# EAGLE library part XCR3128XL_TQ144 (library xess)
Xilinx CoolRunner 128-macrocell CPLD
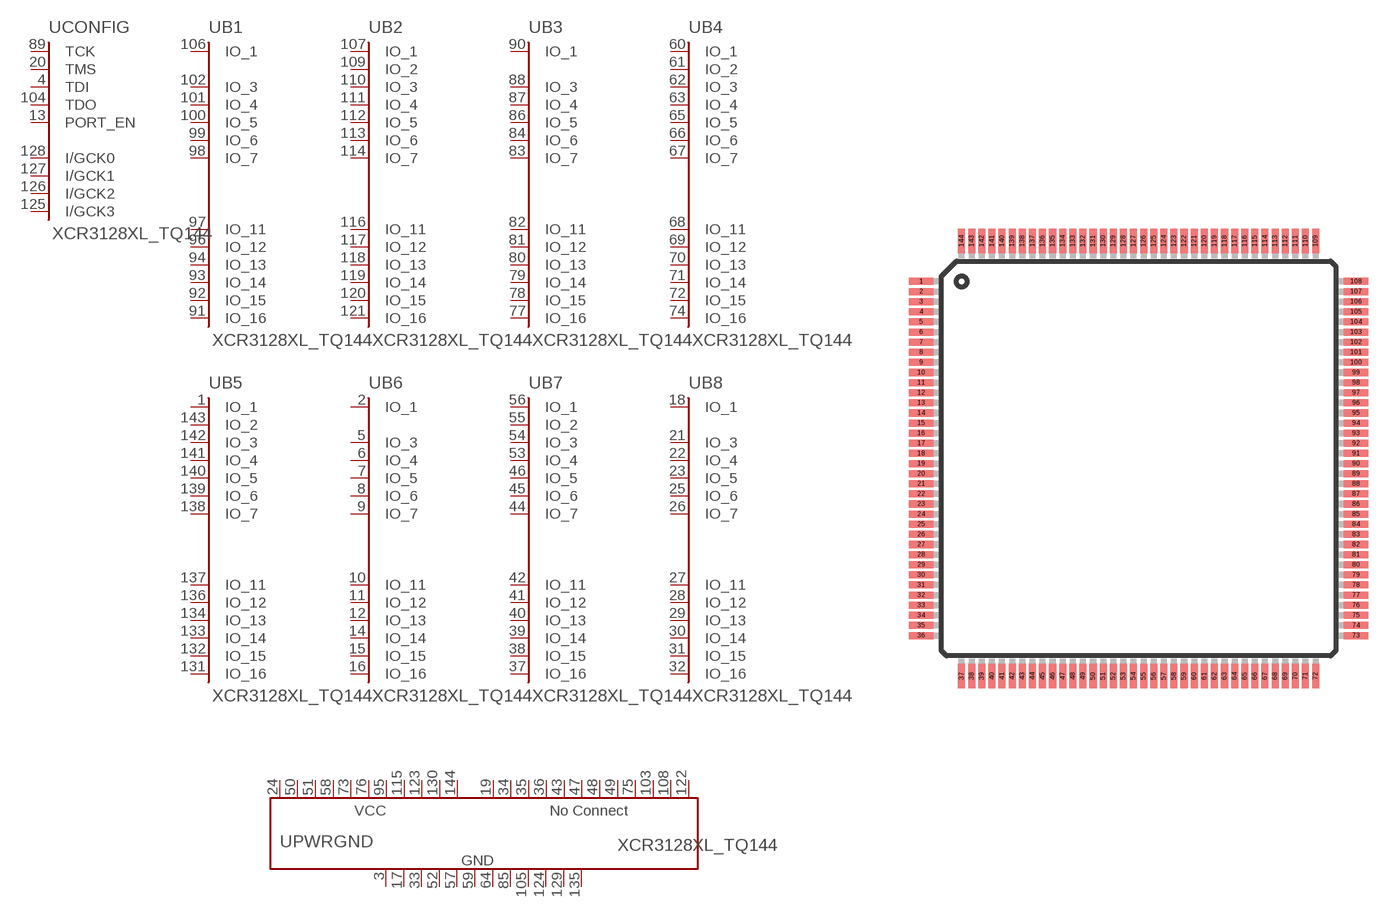
[diagram p15: symbol with the pads of TQ144; footprint TQ144]

Designator prefix U; gates CONFIG=XCR_CONFIG PWRGND=XCR_PWRGND B1=XCR_MACROCELL12 B2=XCR_MACROCELL13 B3=XCR_MACROCELL12 B4=XCR_MACROCELL13 B5=XCR_MACROCELL13 B6=XCR_MACROCELL12 B7=XCR_MACROCELL13 B8=XCR_MACROCELL12

## XCR3128XL_TQ144  [TQ144]
1  B5:IO_1
2  B6:IO_1
3  PWRGND:GND  pwr
4  CONFIG:TDI  in
5  B6:IO_3
6  B6:IO_4
7  B6:IO_5
8  B6:IO_6
9  B6:IO_7
10  B6:IO_11
11  B6:IO_12
12  B6:IO_13
13  CONFIG:PORT_EN  in
14  B6:IO_14
15  B6:IO_15
16  B6:IO_16
17  PWRGND:GND  pwr
18  B8:IO_1
19  PWRGND:NC  nc
20  CONFIG:TMS  in
21  B8:IO_3
22  B8:IO_4
23  B8:IO_5
24  PWRGND:VCC  pwr
25  B8:IO_6
26  B8:IO_7
27  B8:IO_11
28  B8:IO_12
29  B8:IO_13
30  B8:IO_14
31  B8:IO_15
32  B8:IO_16
33  PWRGND:GND  pwr
34  PWRGND:NC  nc
35  PWRGND:NC  nc
36  PWRGND:NC  nc
37  B7:IO_16
38  B7:IO_15
39  B7:IO_14
40  B7:IO_13
41  B7:IO_12
42  B7:IO_11
43  PWRGND:NC  nc
44  B7:IO_7
45  B7:IO_6
46  B7:IO_5
47  PWRGND:NC  nc
48  PWRGND:NC  nc
49  PWRGND:NC  nc
50  PWRGND:VCC  pwr
51  PWRGND:VCC  pwr
52  PWRGND:GND  pwr
53  B7:IO_4
54  B7:IO_3
55  B7:IO_2
56  B7:IO_1
57  PWRGND:GND  pwr
58  PWRGND:VCC  pwr
59  PWRGND:GND  pwr
60  B4:IO_1
61  B4:IO_2
62  B4:IO_3
63  B4:IO_4
64  PWRGND:GND  pwr
65  B4:IO_5
66  B4:IO_6
67  B4:IO_7
68  B4:IO_11
69  B4:IO_12
70  B4:IO_13
71  B4:IO_14
72  B4:IO_15
73  PWRGND:VCC  pwr
74  B4:IO_16
75  PWRGND:NC  nc
76  PWRGND:VCC  pwr
77  B3:IO_16
78  B3:IO_15
79  B3:IO_14
80  B3:IO_13
81  B3:IO_12
82  B3:IO_11
83  B3:IO_7
84  B3:IO_6
85  PWRGND:GND  pwr
86  B3:IO_5
87  B3:IO_4
88  B3:IO_3
89  CONFIG:TCK  in
90  B3:IO_1
91  B1:IO_16
92  B1:IO_15
93  B1:IO_14
94  B1:IO_13
95  PWRGND:VCC  pwr
96  B1:IO_12
97  B1:IO_11
98  B1:IO_7
99  B1:IO_6
100  B1:IO_5
101  B1:IO_4
102  B1:IO_3
103  PWRGND:NC  nc
104  CONFIG:TDO  out
105  PWRGND:GND  pwr
106  B1:IO_1
107  B2:IO_1
108  PWRGND:NC  nc
109  B2:IO_2
110  B2:IO_3
111  B2:IO_4
112  B2:IO_5
113  B2:IO_6
114  B2:IO_7
115  PWRGND:VCC  pwr
116  B2:IO_11
117  B2:IO_12
118  B2:IO_13
119  B2:IO_14
120  B2:IO_15
121  B2:IO_16
122  PWRGND:NC  nc
123  PWRGND:VCC  pwr
124  PWRGND:GND  pwr
125  CONFIG:I/GCK3  in
126  CONFIG:I/GCK2  in
127  CONFIG:I/GCK1  in
128  CONFIG:I/GCK0  in
129  PWRGND:GND  pwr
130  PWRGND:VCC  pwr
131  B5:IO_16
132  B5:IO_15
133  B5:IO_14
134  B5:IO_13
135  PWRGND:GND  pwr
136  B5:IO_12
137  B5:IO_11
138  B5:IO_7
139  B5:IO_6
140  B5:IO_5
141  B5:IO_4
142  B5:IO_3
143  B5:IO_2
144  PWRGND:VCC  pwr

## Footprint TQ144 (pad centres in mm)
smd 1.2 x 0.35: 1 -10.75,8.75; 2 -10.75,8.25; 3 -10.75,7.75; 4 -10.75,7.25; 5 -10.75,6.75; 6 -10.75,6.25; 7 -10.75,5.75; 8 -10.75,5.25; 9 -10.75,4.75; 10 -10.75,4.25; 11 -10.75,3.75; 12 -10.75,3.25; 13 -10.75,2.75; 14 -10.75,2.25; 15 -10.75,1.75; 16 -10.75,1.25; 17 -10.75,0.75; 18 -10.75,0.25; 19 -10.75,-0.25; 20 -10.75,-0.75; 21 -10.75,-1.25; 22 -10.75,-1.75; 23 -10.75,-2.25; 24 -10.75,-2.75; 25 -10.75,-3.25; 26 -10.75,-3.75; 27 -10.75,-4.25; 28 -10.75,-4.75; 29 -10.75,-5.25; 30 -10.75,-5.75; 31 -10.75,-6.25; 32 -10.75,-6.75; 33 -10.75,-7.25; 34 -10.75,-7.75; 35 -10.75,-8.25; 36 -10.75,-8.75; 73 10.75,-8.75; 74 10.75,-8.25; 75 10.75,-7.75; 76 10.75,-7.25; 77 10.75,-6.75; 78 10.75,-6.25; 79 10.75,-5.75; 80 10.75,-5.25; 81 10.75,-4.75; 82 10.75,-4.25; 83 10.75,-3.75; 84 10.75,-3.25; 85 10.75,-2.75; 86 10.75,-2.25; 87 10.75,-1.75; 88 10.75,-1.25; 89 10.75,-0.75; 90 10.75,-0.25; 91 10.75,0.25; 92 10.75,0.75; 93 10.75,1.25; 94 10.75,1.75; 95 10.75,2.25; 96 10.75,2.75; 97 10.75,3.25; 98 10.75,3.75; 99 10.75,4.25; 100 10.75,4.75; 101 10.75,5.25; 102 10.75,5.75; 103 10.75,6.25; 104 10.75,6.75; 105 10.75,7.25; 106 10.75,7.75; 107 10.75,8.25; 108 10.75,8.75
smd 0.35 x 1.2: 37 -8.75,-10.75; 38 -8.25,-10.75; 39 -7.75,-10.75; 40 -7.25,-10.75; 41 -6.75,-10.75; 42 -6.25,-10.75; 43 -5.75,-10.75; 44 -5.25,-10.75; 45 -4.75,-10.75; 46 -4.25,-10.75; 47 -3.75,-10.75; 48 -3.25,-10.75; 49 -2.75,-10.75; 50 -2.25,-10.75; 51 -1.75,-10.75; 52 -1.25,-10.75; 53 -0.75,-10.75; 54 -0.25,-10.75; 55 0.25,-10.75; 56 0.75,-10.75; 57 1.25,-10.75; 58 1.75,-10.75; 59 2.25,-10.75; 60 2.75,-10.75; 61 3.25,-10.75; 62 3.75,-10.75; 63 4.25,-10.75; 64 4.75,-10.75; 65 5.25,-10.75; 66 5.75,-10.75; 67 6.25,-10.75; 68 6.75,-10.75; 69 7.25,-10.75; 70 7.75,-10.75; 71 8.25,-10.75; 72 8.75,-10.75; 109 8.75,10.75; 110 8.25,10.75; 111 7.75,10.75; 112 7.25,10.75; 113 6.75,10.75; 114 6.25,10.75; 115 5.75,10.75; 116 5.25,10.75; 117 4.75,10.75; 118 4.25,10.75; 119 3.75,10.75; 120 3.25,10.75; 121 2.75,10.75; 122 2.25,10.75; 123 1.75,10.75; 124 1.25,10.75; 125 0.75,10.75; 126 0.25,10.75; 127 -0.25,10.75; 128 -0.75,10.75; 129 -1.25,10.75; 130 -1.75,10.75; 131 -2.25,10.75; 132 -2.75,10.75; 133 -3.25,10.75; 134 -3.75,10.75; 135 -4.25,10.75; 136 -4.75,10.75; 137 -5.25,10.75; 138 -5.75,10.75; 139 -6.25,10.75; 140 -6.75,10.75; 141 -7.25,10.75; 142 -7.75,10.75; 143 -8.25,10.75; 144 -8.75,10.75